# EAGLE library part USB2514B (library angrypig7-IC)
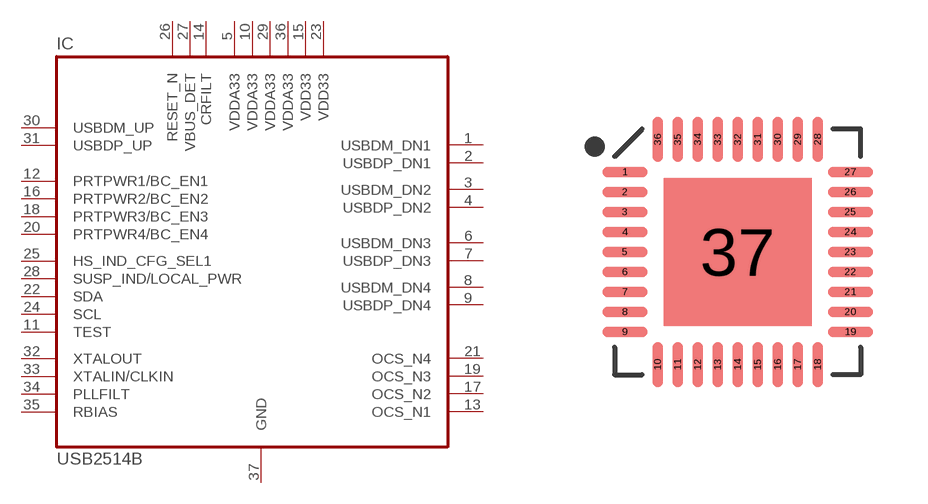
[diagram p15: symbol with the pads of QFN50P600X600X100-37T370N; footprint QFN50P600X600X100-37T370N]

Designator prefix IC

## USB2514B  [QFN50P600X600X100-37T370N]
1  USBDM_DN1
2  USBDP_DN1
3  USBDM_DN2
4  USBDP_DN2
5  VDDA33
6  USBDM_DN3
7  USBDP_DN3
8  USBDM_DN4
9  USBDP_DN4
10  VDDA33
11  TEST  nc
12  PRTPWR1/BC_EN1
13  OCS_N1
14  CRFILT
15  VDD33
16  PRTPWR2/BC_EN2
17  OCS_N2
18  PRTPWR3/BC_EN3
19  OCS_N3
20  PRTPWR4/BC_EN4
21  OCS_N4
22  SDA
23  VDD33
24  SCL
25  HS_IND_CFG_SEL1
26  RESET_N
27  VBUS_DET
28  SUSP_IND/LOCAL_PWR
29  VDDA33
30  USBDM_UP
31  USBDP_UP
32  XTALOUT
33  XTALIN/CLKIN
34  PLLFILT
35  RBIAS
36  VDDA33
37  GND

## Footprint QFN50P600X600X100-37T370N (pad centres in mm)
36-QFN, 0.50 mm pitch, 6.00 X 6.00 X 1.00 mm body, 3.70 X 3.70 mm thermal pad 36-pin QFN package with 0.50 mm pitch with body size 6.00 X 6.00 X 1.00 mm and thermal pad size 3.70 X 3.70 mm
smd 1.133 x 0.264: 1 -2.819,2; 2 -2.819,1.5; 3 -2.819,1; 4 -2.819,0.5; 5 -2.819,0; 6 -2.819,-0.5; 7 -2.819,-1; 8 -2.819,-1.5; 9 -2.819,-2; 19 2.819,-2; 20 2.819,-1.5; 21 2.819,-1; 22 2.819,-0.5; 23 2.819,0; 24 2.819,0.5; 25 2.819,1; 26 2.819,1.5; 27 2.819,2
smd 0.264 x 1.133: 10 -2,-2.819; 11 -1.5,-2.819; 12 -1,-2.819; 13 -0.5,-2.819; 14 0,-2.819; 15 0.5,-2.819; 16 1,-2.819; 17 1.5,-2.819; 18 2,-2.819; 28 2,2.819; 29 1.5,2.819; 30 1,2.819; 31 0.5,2.819; 32 0,2.819; 33 -0.5,2.819; 34 -1,2.819; 35 -1.5,2.819; 36 -2,2.819
smd 3.7 x 3.7: 37 0,0